# Altium footprint library Capacitors_rus.PCBLIB: 349 footprints (part 10 of 22)
Each footprint in its own frame and in the unit in brackets; x right, y up, seen from the top. Pads: shape width x height; smd on the part's side, far side on the other; paste and mask are expansions set on the pad; w line width, h text height; cw(c..) or ccw(c..) is an arc to the next point about the centre after c.
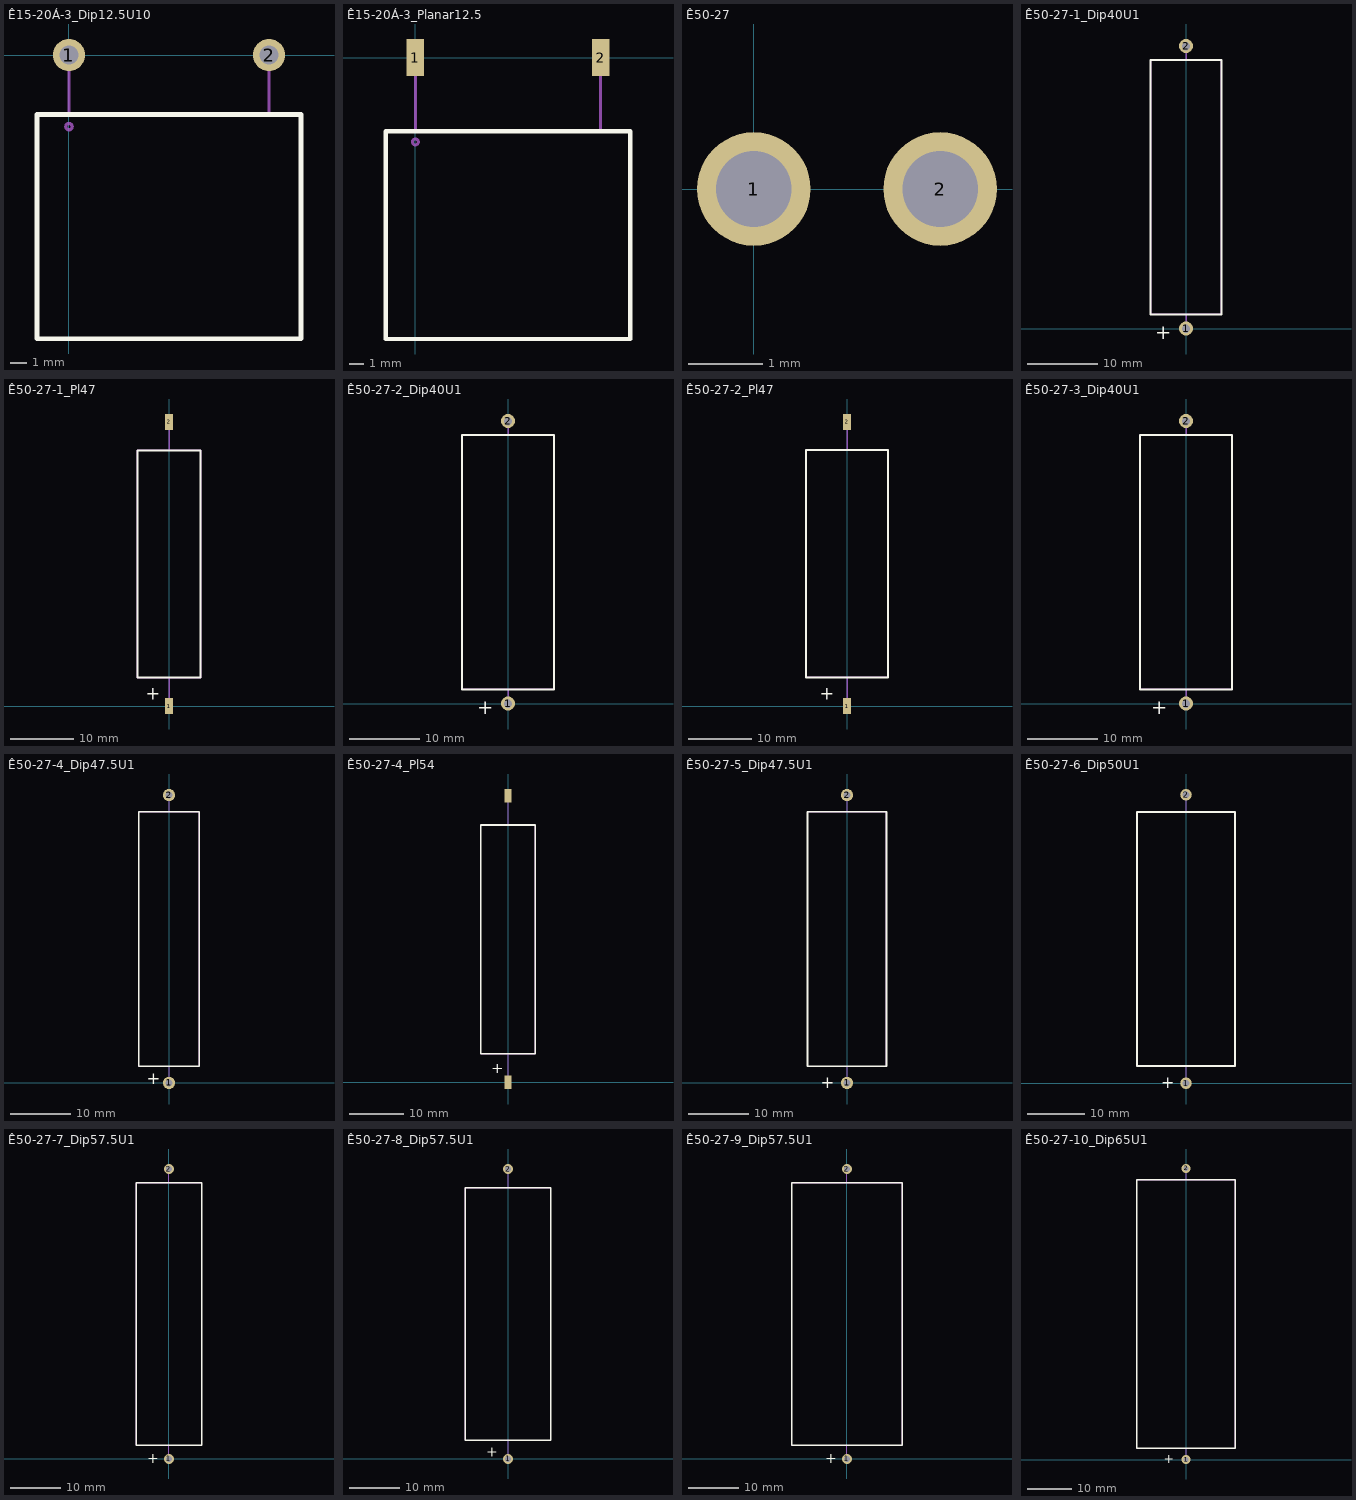
[diagram p9: the footprints below, top view; thin cyan lines are the x and y axes]

## Ê15-20Á-3_Dip12.5U10 [mm]
pads (2):
  round 2 hole 1.2: 1(0,0) 2(12.5,0)
Top Overlay:
  lines w0.3: -2,-17.725 14.5,-17.725 14.5,-3.725 -2,-3.725 -2,-17.725
Mechanical 1:
  circle w0.2: c0,-4.475 r0.2
  lines w0.2: 0,-3.745 0,0 ; 12.5,-3.745 12.5,0 ; 14.5,-17.745 -2,-17.725 -2,-3.725 14.5,-3.725 14.5,-17.725
  text ".Designator" at 3.43,-11.3 h1.5

## Ê15-20Á-3_Planar12.5 [mm]
pads (2):
  rect 1.2x2.5 smd: 1(0,0) 2(12.5,0)
Top Overlay:
  lines w0.3: -2,-18.975 14.5,-18.975 14.5,-4.975 -2,-4.975 -2,-18.975
Mechanical 1:
  circle w0.2: c0.005,-5.69 r0.2
  lines w0.2: 0,-4.995 0,0 ; 12.5,-4.995 12.5,0 ; -2,-18.975 14.5,-18.975 14.5,-4.975 -2,-4.975 -2,-18.975
  text ".Designator" at 3.68,-12.75 h1.5

## Ê50-27 [mil]
pads (2):
  round 60 hole 40: 1(0,0) 2(98.43,0)
Mechanical 1:
  text ".Designator" at 26.77,-11.81 h59.06

## Ê50-27-1_Dip40U1 [mm]
pads (2):
  round 2 hole 1.2: 1(0,0) 2(0,40)
Top Overlay:
  lines w0.3: -5,2 -5,38 5,38 5,2 -5,2
  text "+" at -4.33,-1.48 h2
Mechanical 1:
  lines w0.2: -5,2 5,2 5,38 -5,38 -5,2.01 ; 0,0 0,2.03 ; 0,37.98 0,40
  text "+" at -0.25,3 h1.5
  text ".Designator" at -0.8,17.5 h1.5
  text ".Comment" at 2.6,15.65 h1.5

## Ê50-27-1_Pl47 [mm]
pads (2):
  rect 1.2x2.5 smd: 1(0,0) 2(0,45)
Top Overlay:
  lines w0.3: -5,4.5 -5,40.5 5,40.5 5,4.5 -5,4.5
  text "+" at -3.705,1.02 h2
Mechanical 1:
  lines w0.2: -5,4.5 5,4.5 5,40.5 -5,40.5 -5,4.51 ; 0,-1 0,4.53 ; 0,40.48 0,46
  text ".Designator" at -0.85,19.55 h1.5
  text ".Comment" at 2.55,17.7 h1.5
  text "+" at -0.25,5.5 h1.5

## Ê50-27-2_Dip40U1 [mm]
pads (2):
  round 2 hole 1.2: 1(0,0) 2(0,40)
Top Overlay:
  lines w0.3: -6.5,2 6.5,2 6.5,38 -6.5,38 -6.5,2
  text "+" at -4.33,-1.48 h2
Mechanical 1:
  lines w0.2: 0,0 0,1.99 ; 0,37.94 0,40 ; -6.5,2 6.5,2 6.5,38 -6.5,38 -6.5,2
  text "+" at -0.25,2.75 h1.5
  text ".Comment" at 2.45,15.15 h1.5
  text ".Designator" at -0.95,17 h1.5

## Ê50-27-2_Pl47 [mm]
pads (2):
  rect 1.2x2.5 smd: 1(0,0) 2(0,45)
Top Overlay:
  lines w0.3: -6.5,4.54 -6.5,40.54 6.5,40.54 6.5,4.54 -6.5,4.54
  text "+" at -4.33,1.02 h2
Mechanical 1:
  lines w0.2: 0,0 0,4.53 ; 0,40.48 0,45 ; -6.5,4.54 -6.5,40.54 6.5,40.54 6.5,4.54 -6.5,4.54
  text ".Designator" at -1.25,18.85 h1.5
  text ".Comment" at 2.15,17 h1.5
  text "+" at -0.728,5.618 h1.5

## Ê50-27-3_Dip40U1 [mm]
pads (2):
  round 2 hole 1.2: 1(0,0) 2(0,40)
Top Overlay:
  lines w0.3: -6.5,2 6.5,2 6.5,38 -6.5,38 -6.5,2
  text "+" at -4.955,-1.48 h2
Mechanical 1:
  lines w0.2: 0,0 0,1.99 ; 0,37.94 0,40 ; -6.5,2 6.5,2 6.5,38 -6.5,38 -6.5,2
  text "+" at -0.5,2.75 h1.5
  text ".Comment" at 2.45,15.2 h1.5
  text ".Designator" at -0.95,17.05 h1.5

## Ê50-27-4_Dip47.5U1 [mm]
pads (2):
  round 2 hole 1.2: 1(0,0) 2(0,47.5)
Top Overlay:
  lines w0.3: 5,44.75 -5,44.75 -5,2.75 5,2.75 5,44.76
  text "+" at -3.705,-0.23 h2
Mechanical 1:
  lines w0.2: 0,0 0,2.77 ; 0,44.73 0,47.5 ; -5,2.75 5,2.75 5,44.75 -5,44.75 -5,2.75
  text "+" at -0.5,3.75 h1.5
  text ".Comment" at 2.45,18.5 h1.5
  text ".Designator" at -0.95,20.35 h1.5

## Ê50-27-4_Pl54 [mm]
pads (2):
  rect 1.2x2.5 smd: 1(0,0) 2(0,52.62)
Top Overlay:
  lines w0.3: 5,47.25 -5,47.25 -5,5.25 5,5.25 5,47.26
  text "+" at -3.08,1.645 h2
Mechanical 1:
  lines w0.2: 0,-0.75 0,5.27 ; 0,47.23 0,53.25 ; -5,5.25 -5,47.25 5,47.25 5,5.25 -5,5.25
  text ".Designator" at -0.85,23.7 h1.5
  text ".Comment" at 2.55,21.85 h1.5
  text "+" at -0.25,6.25 h1.5

## Ê50-27-5_Dip47.5U1 [mm]
pads (2):
  round 2 hole 1.2: 1(0,0) 2(0,47.5)
Top Overlay:
  lines w0.3: -6.5,2.75 -6.5,44.75 6.5,44.75 6.5,2.75 -6.5,2.75
  text "+" at -4.33,-0.855 h2
Mechanical 1:
  lines w0.2: 0,0 0,2.77 ; 0,44.73 0,47.5 ; -6.5,2.75 -6.5,44.75 6.5,44.75 6.5,2.75 -6.5,2.75
  text "+" at -0.5,3.75 h1.5
  text ".Comment" at 2.5,19.1 h1.5
  text ".Designator" at -0.9,20.95 h1.5

## Ê50-27-6_Dip50U1 [mm]
pads (2):
  round 2 hole 1.2: 1(0,0) 2(0,50)
Top Overlay:
  lines w0.3: -8.5,3 -8.5,47 8.5,47 8.5,3 -8.5,3
  text "+" at -4.33,-0.855 h2
Mechanical 1:
  lines w0.2: 0,0 0,3.03 ; 0,46.98 0,50 ; -8.5,3 -8.5,47 8.5,47 8.5,3 -8.5,3
  text "+" at -0.25,4.25 h1.5
  text ".Comment" at 2.4,19.15 h1.5
  text ".Designator" at -1,21 h1.5

## Ê50-27-7_Dip57.5U1 [mm]
pads (2):
  round 2 hole 1.2: 1(0,0) 2(0,57.5)
Top Overlay:
  lines w0.3: -6.5,2.75 -6.5,54.75 6.5,54.75 6.5,2.75 -6.5,2.75
  text "+" at -4.33,-0.855 h2
Mechanical 1:
  lines w0.2: 0,0 0,2.78 ; 0,54.73 0,57.5 ; -6.5,2.75 -6.5,54.75 6.5,54.75 6.5,2.75 -6.5,2.75
  text "+" at -0.25,4.25 h1.5
  text ".Comment" at 2.2,23.85 h1.5
  text ".Designator" at -1.2,25.7 h1.5

## Ê50-27-8_Dip57.5U1 [mm]
pads (2):
  round 2 hole 1.2: 1(0,0) 2(0,57.5)
Top Overlay:
  lines w0.3: -8.5,3.75 -8.5,53.75 8.5,53.75 8.5,3.75 -8.5,3.75
  text "+" at -4.33,0.395 h2
Mechanical 1:
  lines w0.2: -8.51,3.74 8.5,3.75 8.5,53.75 -8.5,53.75 -8.5,3.75 ; 0,0 0,3.78 ; 0,53.73 0,57.5
  text "+" at -0.25,5 h1.5
  text ".Comment" at 2.35,24.35 h1.5
  text ".Designator" at -1.05,26.2 h1.5

## Ê50-27-9_Dip57.5U1 [mm]
pads (2):
  round 2 hole 1.2: 1(0,0) 2(0,57.5)
Top Overlay:
  lines w0.3: -11,2.75 11,2.75 11,54.75 -11,54.75 -11,2.75
  text "+" at -4.33,-0.855 h2
Mechanical 1:
  lines w0.2: 0,0 0,2.78 ; 0,54.73 0,57.5 ; -11,2.75 11,2.75 11,54.75 -11,54.75 -11,2.75
  text ".Designator" at -1.4,25.95 h1.5
  text ".Comment" at 2,24.1 h1.5
  text "+" at -0.25,3.75 h1.5

## Ê50-27-10_Dip65U1 [mm]
pads (2):
  round 2 hole 1.2: 1(0,0) 2(0,65)
Top Overlay:
  lines w0.3: -11,2.5 -11,62.5 11,62.5 11,2.5 -11,2.5
  text "+" at -4.955,-0.855 h2
Mechanical 1:
  lines w0.2: 0,0 0,2.53 ; 0,62.48 0,65 ; -11,2.5 -11,62.5 11,62.5 11,2.5 -11,2.5
  text "+" at -0.25,4.25 h1.5
  text ".Comment" at 2.1,27.65 h1.5
  text ".Designator" at -1.3,29.5 h1.5